# EAGLE library part ADS8320 (library ADC)
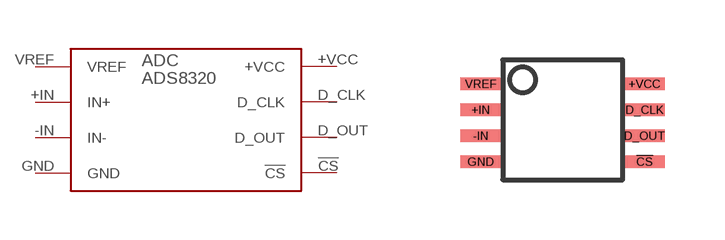
[diagram p0: symbol with the pads of S-PDSO-G8; footprint S-PDSO-G8]

Designator prefix ADC

## ADS8320  [S-PDSO-G8]
!CS  !CS  in
+IN  IN+  in
+VCC  +VCC  pwr
-IN  IN-  in
D_CLK  D_CLK  in
D_OUT  D_OUT  out
GND  GND  pwr
VREF  VREF  in

## Footprint S-PDSO-G8 (pad centres in mm)
smd 1 x 0.305: !CS 3.55,-2.55; +IN -0.55,-1.25; +VCC 3.55,-0.6; -IN -0.55,-1.9; D_CLK 3.55,-1.25; D_OUT 3.55,-1.9; GND -0.55,-2.55; VREF -0.55,-0.6